# Altium footprint library TANTALUM_C.PcbLib: 1 footprints
Each footprint in its own frame and in the unit in brackets; x right, y up, seen from the top. Pads: shape width x height; smd on the part's side, far side on the other; paste and mask are expansions set on the pad; w line width, h text height; cw(c..) or ccw(c..) is an arc to the next point about the centre after c.
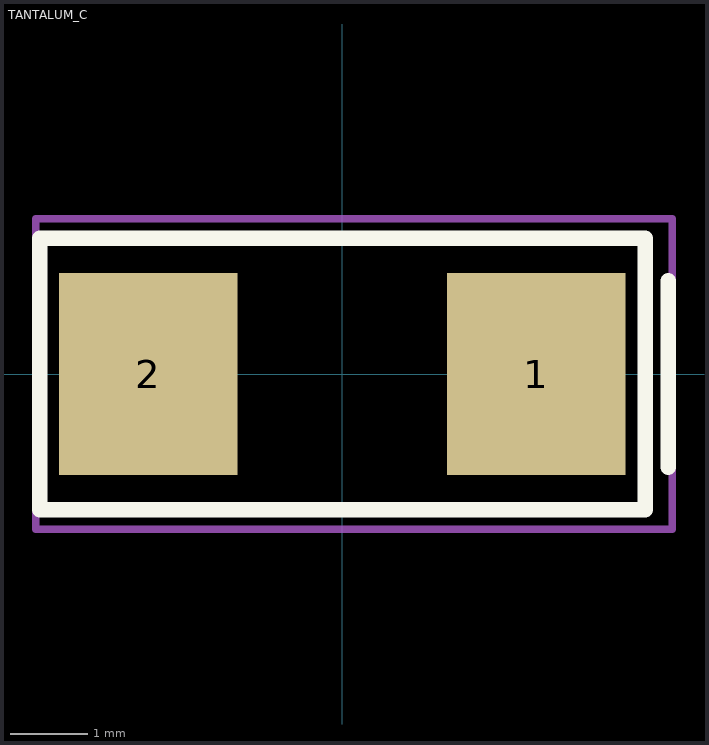
[diagram p0: the footprint, top view; thin cyan lines are the x and y axes]

## TANTALUM_C [mm]
pads (2):
  rect 2.3x2.6 smd: 1(2.5,0) 2(-2.5,0)
Top Overlay:
  lines w0.2: 4.2,-1.2 4.2,1.2 ; -3.9,-1.75 -3.9,1.75 3.9,1.75 3.9,-1.75 -3.9,-1.75
Top Courtyard:
  lines w0.1: -3.95,-2 4.25,-2 4.25,2 -3.95,2 -3.95,-2
3D body "T491C475M035AT.step": height 2.81, standoff 0, extent -3.15,-1.75 3.15,1.75